# EAGLE library part MA700 (library my_ic)
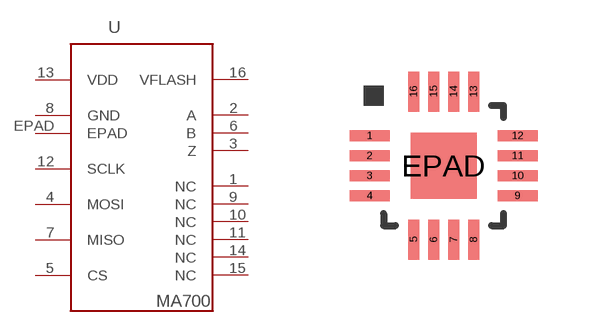
[diagram p30: symbol with the pads of QFN-16; footprint QFN-16]

Designator prefix -

## MA700  [QFN-16]
1  NC
2  A
3  Z
4  MOSI
5  CS
6  B
7  MISO
8  GND
9  NC
10  NC
11  NC
12  SCLK
13  VDD
14  NC
15  NC
16  VFLASH
EPAD  EPAD

## Footprint QFN-16 (pad centres in mm)
smd 1 x 0.275: 1 -1.85,0.75; 2 -1.85,0.25; 3 -1.85,-0.25; 4 -1.85,-0.75; 9 1.85,-0.75; 10 1.85,-0.25; 11 1.85,0.25; 12 1.85,0.75
smd 0.275 x 1: 5 -0.75,-1.85; 6 -0.25,-1.85; 7 0.25,-1.85; 8 0.75,-1.85; 13 0.75,1.85; 14 0.25,1.85; 15 -0.25,1.85; 16 -0.75,1.85
smd 1.65 x 1.65: EPAD 0,0